# Altium footprint library S_TACTSWITCH3x6.PcbLib: 1 footprints
Each footprint in its own frame and in the unit in brackets; x right, y up, seen from the top. Pads: shape width x height; smd on the part's side, far side on the other; paste and mask are expansions set on the pad; w line width, h text height; cw(c..) or ccw(c..) is an arc to the next point about the centre after c.
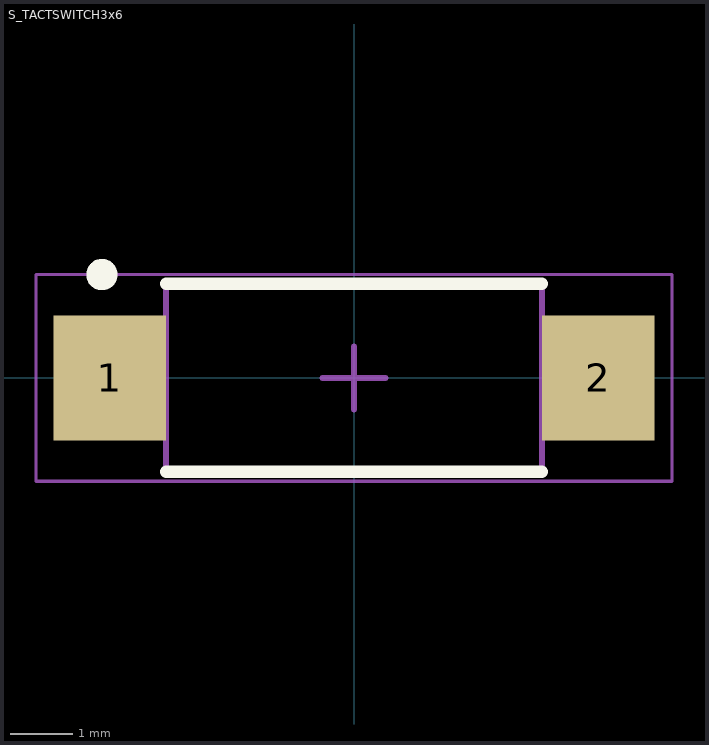
[diagram p0: the footprint, top view; thin cyan lines are the x and y axes]

## S_TACTSWITCH3x6 [mm] "SODFL, 2-Leads, Body 3,00x8,00mm, IPC Medium Density"
height 3
pads (2):
  rect 1.8x2 smd: 1(-3.9,0) 2(3.9,0)
Top Overlay:
  circle w0.25: c-4.025,1.65 r0.125
  lines w0.2: -3,-1.5 3,-1.5 ; -3,1.5 3,1.5
Mechanical 13:
  lines w0.1: -3,-1.5 3,-1.5 3,1.5 -3,1.5 -3,-1.5
Mechanical 15:
  lines w0.05: -5.08,-1.65 5.08,-1.65 5.08,1.65 -5.08,1.65 -5.08,-1.65
  lines w0.1: -0.5,0 0.5,0 ; 0,-0.5 0,0.5
Mechanical 17:
  text "'.Designator'" at -3.302,-1.27 h0.64
Mechanical 19:
  text "'.Comment'" at -3.302,-1.27 h0.64
3D body "User Library-Tact switch 1181_2.step": height 2.6, standoff 0, extent -4,-1.8 4,1.8